# Altium schematic symbol library PDQE20-Q24-S12-D.SchLib: 1 symbol
Pins are listed as number, name and electrical type; pins without a type are passive.

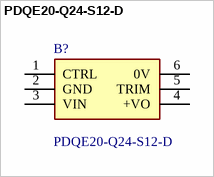
[diagram p0: symbol PDQE20-Q24-S12-D]

## PDQE20-Q24-S12-D
designator B?
Isolated DC/DC Converters - Through Hole dc-dc isolated, 20 W, 9~36 Vdc input, 12 Vdc, 1.667A, single regulated output, DIP; Manufacturer_Name: CUI Inc.; Geometry.Height: 12.2mm; Manufacturer_Part_Number: PDQE20-Q24-S12-D; Mouser Part Number: 490-PDQE20-Q24-S12-D; Mouser Price/Stock: https://www.mouser.co.uk/ProductDetail/CUI-Inc/PDQE20-Q24-S12-D?qs=T3oQrply3y%252BFQp9j4U5RaQ%3D%3D; Arrow Part Number: PDQE20-Q24-S12-D; Arrow Price/Stock: https://www.arrow.com/en/products/pdqe20-q24-s12-d/cui-inc?region=nac; Datasheet Link: https://www.cui.com/product/resource/pdqe20-d.pdf
footprint PDQE20Q24S12D
pins: 1 CTRL, 2 GND, 3 VIN, 4 +VO, 5 TRIM, 6 0V